# EAGLE library part YM2151 (library A-14732-40009)
Yamaha 2151 FM-type sound generator in DIP24 package
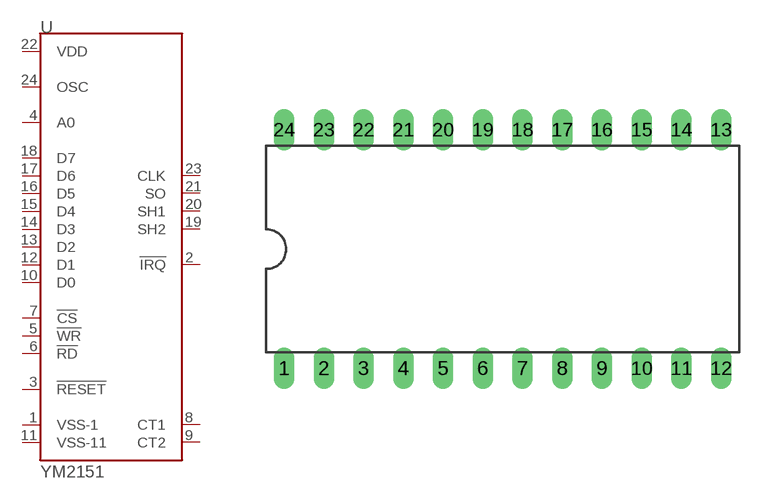
[diagram p4: symbol with the pads of DIP24; footprint DIP24]

Designator prefix U

## YM2151  [DIP24]
1  VSS-1  pas
2  !IRQ  pas
3  !RESET  pas
4  A0  pas
5  !WR  pas
6  !RD  pas
7  !CS  pas
8  CT1  pas
9  CT2  pas
10  D0  pas
11  VSS-11  pas
12  D1  pas
13  D2  pas
14  D3  pas
15  D4  pas
16  D5  pas
17  D6  pas
18  D7  pas
19  SH2  pas
20  SH1  pas
21  SO  pas
22  VDD  pas
23  CLK  pas
24  OSC  pas

## Footprint DIP24 (pad centres in mm)
Dual In Line Package 24 pin
drill 0.813 long: 1 -13.97,-7.62; 2 -11.43,-7.62; 3 -8.89,-7.62; 4 -6.35,-7.62; 5 -3.81,-7.62; 6 -1.27,-7.62; 7 1.27,-7.62; 8 3.81,-7.62; 9 6.35,-7.62; 10 8.89,-7.62; 11 11.43,-7.62; 12 13.97,-7.62; 13 13.97,7.62; 14 11.43,7.62; 15 8.89,7.62; 16 6.35,7.62; 17 3.81,7.62; 18 1.27,7.62; 19 -1.27,7.62; 20 -3.81,7.62; 21 -6.35,7.62; 22 -8.89,7.62; 23 -11.43,7.62; 24 -13.97,7.62